# EAGLE library part ESP32-C3-WROOM-02-N4 (library ESP32-C3-WROOM-02-N4)
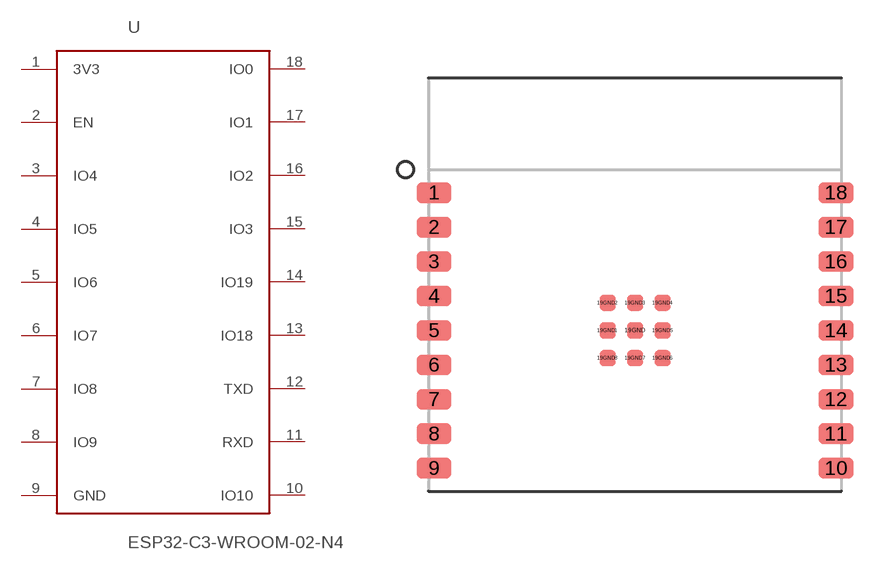
[diagram p0: symbol with the pads of NOAPARECE; footprint NOAPARECE]

Designator prefix U

## ESP32-C3-WROOM-02-N4  [NOAPARECE]
1  3V3  pwr
2  EN
3  IO4
4  IO5
5  IO6
6  IO7
7  IO8
8  IO9
9  GND
10  IO10
11  RXD
12  TXD
13  IO18
14  IO19
15  IO3
16  IO2
17  IO1
18  IO0

## Footprint NOAPARECE (pad centres in mm)
smd 1.5 x 0.9: 1 -8.75,6; 2 -8.75,4.5; 3 -8.75,3; 4 -8.75,1.5; 5 -8.75,0; 6 -8.75,-1.5; 7 -8.75,-3; 8 -8.75,-4.5; 9 -8.75,-6; 10 8.75,-6; 11 8.75,-4.5; 12 8.75,-3; 13 8.75,-1.5; 14 8.75,0; 15 8.75,1.5; 16 8.75,3; 17 8.75,4.5; 18 8.75,6
smd 0.7 x 0.7: 19GND 0,0; 19GND1 -1.2,0; 19GND2 -1.2,1.2; 19GND3 0,1.2; 19GND4 1.2,1.2; 19GND5 1.2,0; 19GND6 1.2,-1.2; 19GND7 0,-1.2; 19GND8 -1.2,-1.2